# Altium schematic symbol library Microcircuits.SchLib: 7 symbols
Pins are listed as number, name and electrical type; pins without a type are passive.

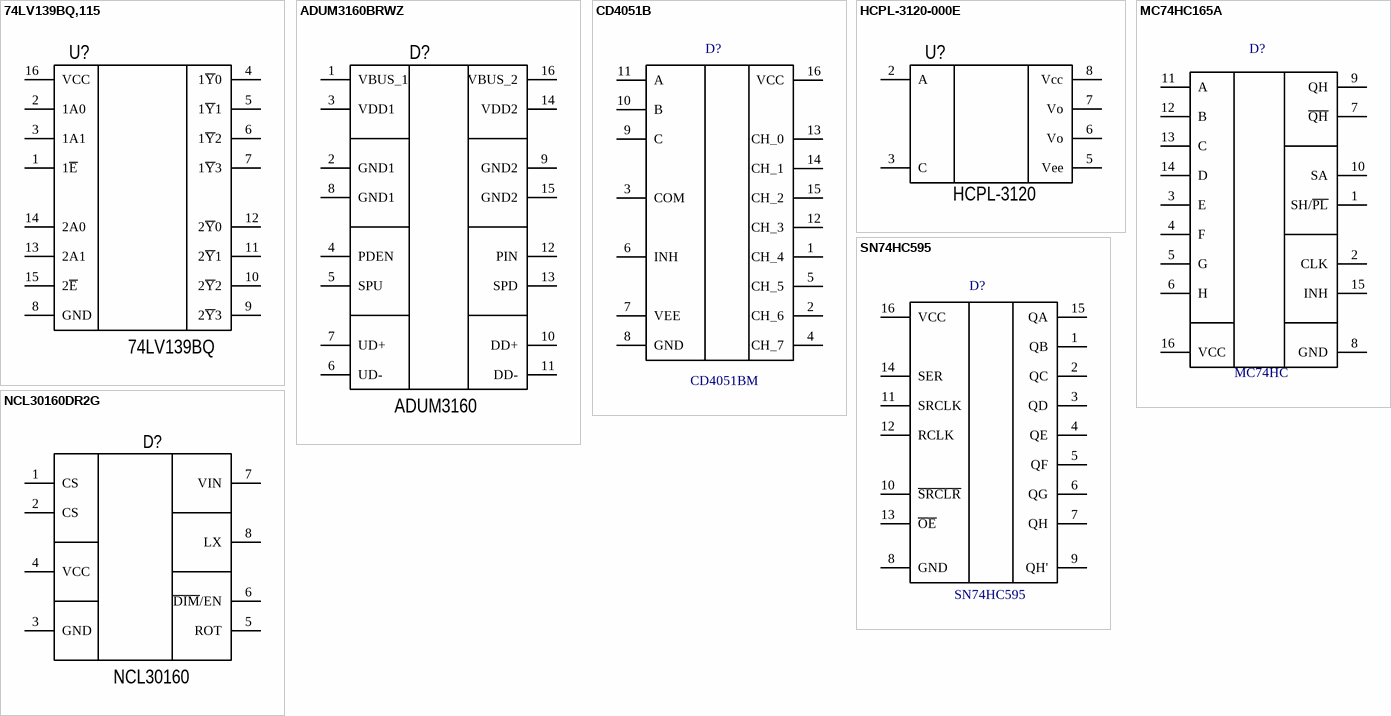
[diagram p0: symbols 74LV139BQ,115 to SN74HC595]

## 74LV139BQ,115
designator U?, comment 74LV139BQ
Decoder/Demultiplexer 1 x 2:4 16-DHVQFN (2.5x3.5); Manufacture: NXP USA Inc.; Model: 74LV139BQ,115; Name: Демультиплексор; Case: 16-DHVQFN; HelpURL: https://www.digikey.com/en/products/detail/nxp-usa-inc/74LV139BQ-115/1966030; Value: 74LV139BQ
footprint 16-DHVQFN
pins: 1 1~{E}, 2 1A0, 3 1A1, 4 1~{Y}0, 5 1~{Y}1, 6 1~{Y}2, 7 1~{Y}3, 8 GND, 9 2~{Y}3, 10 2~{Y}2, 11 2~{Y}1, 12 2~{Y}0, 13 2A1, 14 2A0, 15 2~{E}, 16 VCC

## ADUM3160BRWZ
designator D?, comment ADUM3160
USB Digital Isolator 2500Vrms 1 Channel 12Mbps 25kV/µs CMTI 16-SOIC (0.295", 7.50mm Width); Manufacture: Analog Devices Inc.; Model: ADUM3160BRWZ; Name: Микросхема (USB - изолятор); Case: SOIC-16; HelpURL: https://www.digikey.com/en/products/detail/analog-devices-inc/ADUM3160BRWZ/2361054; Value: ADUM3160
footprint 16-SOIC (DW) (16-SOWB)(SO16L) (DW0016A)
pins: 1 VBUS_1, 2 GND1, 3 VDD1, 4 PDEN, 5 SPU, 6 UD-, 7 UD+, 8 GND1, 9 GND2, 10 DD+, 11 DD-, 12 PIN, 13 SPD, 14 VDD2, 15 GND2, 16 VBUS_2

## CD4051B
designator D?, comment CD4051BM
IC MUX/DEMUX 8X1 16SOIC; Manufacture: Texas Instruments; Name: Микросхема; Case: =Footprint; HelpURL: https://www.digikey.com/en/products/detail/texas-instruments/CD4051BM/13492371; Model: CD4051BM; Value: CD4051BM
footprint 16-TSSOP (PW) (PW0016A)
footprint 16-SOIC (D) (D (R-PDSO-G16))
footprint 16-SO (NS) (NS (R-PDSO-G16))
footprint 16-PDIP (N) (N (R-PDIP-T16))
footprint 16-CDIP (J) (N (R-PDIP-T16))
pins: 1 CH_4, 2 CH_6, 3 COM, 4 CH_7, 5 CH_5, 6 INH, 7 VEE, 8 GND, 9 C, 10 B, 11 A, 12 CH_3, 13 CH_0, 14 CH_1, 15 CH_2, 16 VCC

## HCPL-3120-000E
designator U?, comment HCPL-3120
Optocoupler; Manufacture: Broadcom Limited; Model: HCPL-3120-000E; Name: Оптопара; Case: DIP-8; HelpURL: https://www.digikey.com/en/products/detail/broadcom-limited/HCPL-3120-000E/669903?s=N4IgTCBcDaIBYGMAOAbAzARjABgLTYIFMQBdAXyA; Value: HCPL-3120
footprint 8-DIP (0.300", 7.62mm)
pins: 2 A, 3 C, 5 Vee, 6 Vo, 7 Vo, 8 Vcc

## MC74HC165A
designator D?, comment MC74HC
Manufacture: ON Semiconductor; Model: MC74HC165A; Name: Микросхема; Case: TSSOP-16; HelpURL: https://www.digikey.com/product-detail/en/on-semiconductor/MC74HC165ADTR2G/MC74HC165ADTR2GOSTR-ND/1479889; Value: MC74HC
footprint 16-TSSOP
pins: 1 SH/~{PL}, 2 CLK, 3 E, 4 F, 5 G, 6 H, 7 ~{QH}, 8 GND, 9 QH, 10 SA, 11 A, 12 B, 13 C, 14 D, 15 INH, 16 VCC

## NCL30160DR2G
designator D?, comment NCL30160
LED Driver IC 1 Output DC DC Regulator Step-Down (Buck) PWM Dimming 1A 8-SOIC; Manufacture: onsemi; Model: NCL30160DR2G; Name: Светодиодный драйвер; Case: 8-SOIC (0.154", 3.90mm Width); HelpURL: https://www.digikey.com/en/products/detail/onsemi/ncl30160dr2g/3062085; Value: NCL30160
footprint 8-SOIC (0.154", 3.90mm Width) (SOIC, 8-Leads, Body 4,90x3,90mm, Pitch 1,27mm, IPC Medium Density)
pins: 1 CS "Вход", 2 CS "Вход", 3 GND "Вход", 4 VCC "Вход", 5 ROT "Вход", 6 ~{DIM}/EN "Вход", 7 VIN "Вход", 8 LX "Вход"

## SN74HC595
designator D?
Shift Shift Register 1 Element 8 Bit 16-SSOP; Manufacture: ON Semiconductor; Model: SN74HC595ADB; Name: Микросхема; Case: =Footprint; HelpURL: https://www.digikey.com/en/products/filter/logic-shift-registers/712?s=N4IgTCBcDaIMoDkDsAWAEgYQKwE4sgF0AaEfSUABygEYSKrJqAGJgX1aA; Value: SN74HC595
footprint 16-TSSOP (PW)
footprint 16-SOIC (D) (D (R-PDSO-G16))
footprint 16-SOIC (DW) (16-SOWB)(SO16L) (DW0016A)
footprint 16-SSOP (DB) (DB (R-PDSO-G16))
footprint 16-SO (NS) (NS (R-PDSO-G16))
footprint 16-PDIP (N) (N (R-PDIP-T16))
pins: 1 QB, 2 QC, 3 QD, 4 QE, 5 QF, 6 QG, 7 QH, 8 GND, 9 QH', 10 ~{SRCLR}, 11 SRCLK, 12 RCLK, 13 ~{OE}, 14 SER, 15 QA, 16 VCC